# Altium footprint library DFLS.PcbLib: 1 footprints
Each footprint in its own frame and in the unit in brackets; x right, y up, seen from the top. Pads: shape width x height; smd on the part's side, far side on the other; paste and mask are expansions set on the pad; w line width, h text height; cw(c..) or ccw(c..) is an arc to the next point about the centre after c.
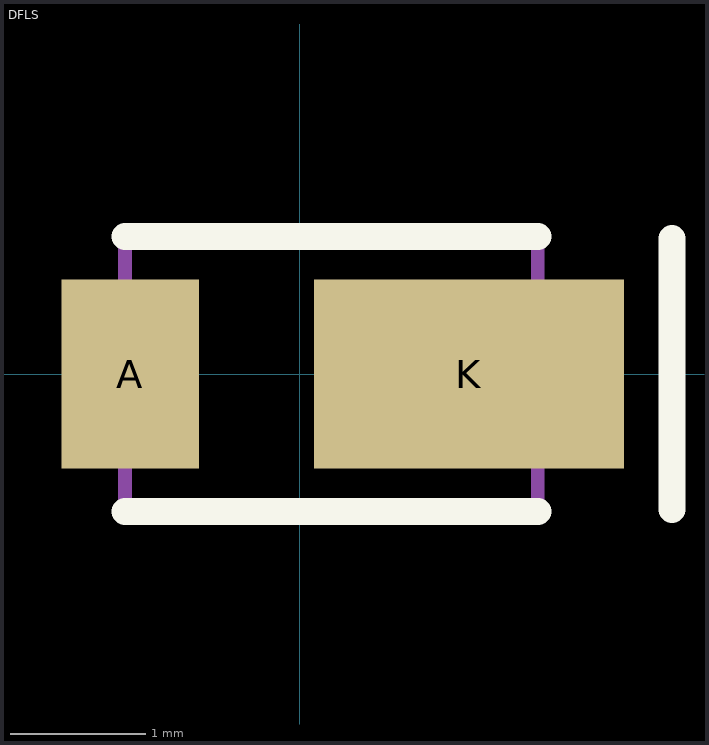
[diagram p0: the footprint, top view; thin cyan lines are the x and y axes]

## DFLS [mil]
pads (2):
  rect 40x55 smd: A(-49.21,0)
  rect 90x55 smd: K(49.21,0)
Top Overlay:
  lines w7.87: -50.79,-40 69.21,-40 ; -50.79,40 69.21,40 ; 108.27,-39.37 108.27,39.37
Mechanical 13:
  lines w3.94: -50.79,-40 69.21,-40 69.21,40 -50.79,40 -50.79,-40